# EAGLE library part MCP1640BT-I/CHY (library 3D_Netzteil_V1_0_R03)
Synchronous Boost Regulator
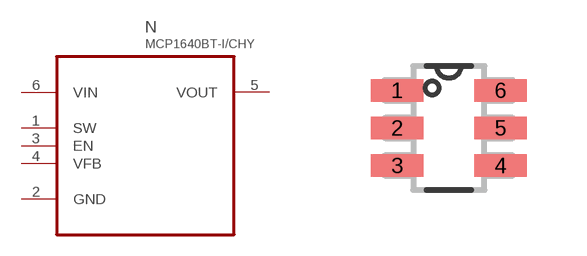
[diagram p0: symbol with the pads of SOT95P270X145-6N; footprint SOT95P270X145-6N]

Designator prefix N

## MCP1640BT-I/CHY (MPN: MCP1640BT-I/CHY; OC_FARNELL: 1800207; OC_NEWARK: 73R3625; PACKAGE: SOT-6; SUPPLIER: Microchip)  [SOT95P270X145-6N]
1  SW  in
2  GND  pas
3  EN  in
4  VFB  in
5  VOUT  out
6  VIN  in

## Footprint SOT95P270X145-6N (pad centres in mm)
smd 1.321 x 0.559: 1 -1.295,0.94; 2 -1.295,0; 3 -1.295,-0.94; 4 1.295,-0.94; 5 1.295,0; 6 1.295,0.94